# EAGLE library part CONNECTORS_M8 (library myLib)
13-pin single row .1" header
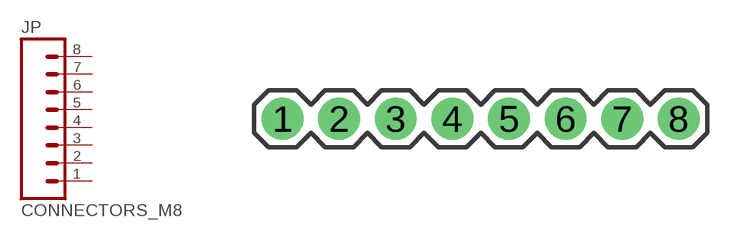
[diagram p10: symbol with the pads of CONNECTORS_1X8; footprint CONNECTORS_1X8]

Designator prefix JP

## CONNECTORS_M8  [CONNECTORS_1X8]
1  1  pas
2  2  pas
3  3  pas
4  4  pas
5  5  pas
6  6  pas
7  7  pas
8  8  pas

## Footprint CONNECTORS_1X8 (pad centres in mm)
drill 1.016 pad 1.88: 1 0,0; 2 2.54,0; 3 5.08,0; 4 7.62,0; 5 10.16,0; 6 12.7,0; 7 15.24,0; 8 17.78,0